# Altium schematic symbol library PMOSFET.Schlib: 4 symbols
Pins are listed as number, name and electrical type; pins without a type are passive.

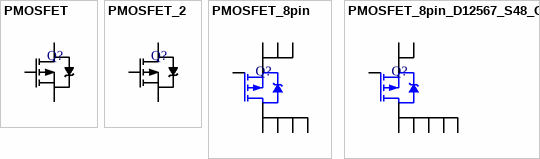
[diagram p0: symbols PMOSFET to PMOSFET_8pin_D12567_S48_G3]

## PMOSFET
designator Q?
pins: 1 G, 2 D, 3 S

## PMOSFET_2
designator Q?
pins: 1 G, 2 S, 3 D

## PMOSFET_8pin
designator Q?
pins: 1 S, 2 S, 3 S, 4 G, 5 D, 6 D, 7 D, 8 D

## PMOSFET_8pin_D12567_S48_G3
designator Q?
pins: 1 D, 2 D, 3 G, 4 S, 5 D, 6 D, 7 D, 8 S